# EAGLE library part PIC18F67K40 (library MCE_Microcontroladores-SoCs)
PIC18(L)F67K40 64-Pin, Low-Power, High-Performance Microcontrollers with XLP Technology
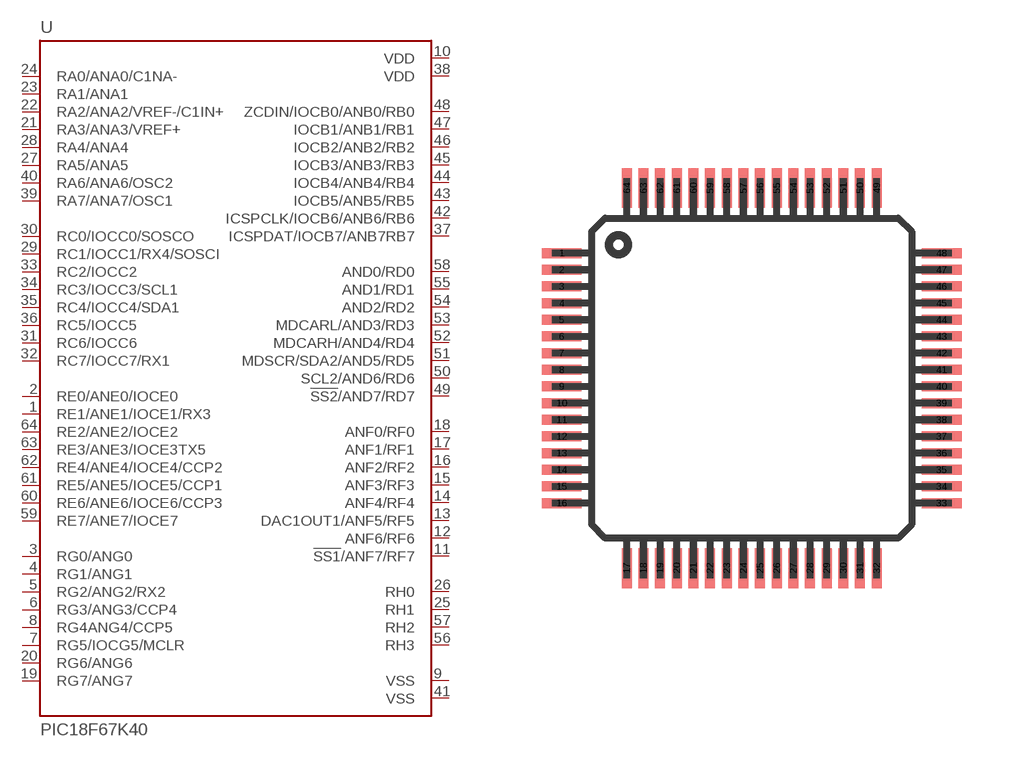
[diagram p8: symbol with the pads of TQFP64-10X10; footprint TQFP64-10X10]

Designator prefix U

## PIC18F67K40-I/PT  [TQFP64-10X10]
1  RE1/ANE1/IOCE1/RX3
2  RE0/ANE0/IOCE0
3  RG0/ANG0
4  RG1/ANG1
5  RG2/ANG2/RX2
6  RG3/ANG3/CCP4
7  RG5/IOCG5/MCLR
8  RG4ANG4/CCP5
9  VSS
10  VDD
11  !SS1!/ANF7/RF7
12  ANF6/RF6
13  DAC1OUT1/ANF5/RF5
14  ANF4/RF4
15  ANF3/RF3
16  ANF2/RF2
17  ANF1/RF1
18  ANF0/RF0
19  RG7/ANG7
20  RG6/ANG6
21  RA3/ANA3/VREF+
22  RA2/ANA2/VREF-/C1IN+
23  RA1/ANA1
24  RA0/ANA0/C1NA-
25  RH1
26  RH0
27  RA5/ANA5
28  RA4/ANA4
29  RC1/IOCC1/RX4/SOSCI
30  RC0/IOCC0/SOSCO
31  RC6/IOCC6
32  RC7/IOCC7/RX1
33  RC2/IOCC2
34  RC3/IOCC3/SCL1
35  RC4/IOCC4/SDA1
36  RC5/IOCC5
37  ICSPDAT/IOCB7/ANB7RB7
38  VDD
39  RA7/ANA7/OSC1
40  RA6/ANA6/OSC2
41  VSS
42  ICSPCLK/IOCB6/ANB6/RB6
43  IOCB5/ANB5/RB5
44  IOCB4/ANB4/RB4
45  IOCB3/ANB3/RB3
46  IOCB2/ANB2/RB2
47  IOCB1/ANB1/RB1
48  ZCDIN/IOCB0/ANB0/RB0
49  !SS2!/AND7/RD7
50  SCL2/AND6/RD6
51  MDSCR/SDA2/AND5/RD5
52  MDCARH/AND4/RD4
53  MDCARL/AND3/RD3
54  AND2/RD2
55  AND1/RD1
56  RH3
57  RH2
58  AND0/RD0
59  RE7/ANE7/IOCE7
60  RE6/ANE6/IOCE6/CCP3
61  RE5/ANE5/IOCE5/CCP1
62  RE4/ANE4/IOCE4/CCP2
63  RE3/ANE3/IOCE3TX5
64  RE2/ANE2/IOCE2

## Footprint TQFP64-10X10 (pad centres in mm)
Thin Quad Flat Pack package type TQ
smd 1.2 x 0.3: 1 -5.7,3.75; 2 -5.7,3.25; 3 -5.7,2.75; 4 -5.7,2.25; 5 -5.7,1.75; 6 -5.7,1.25; 7 -5.7,0.75; 8 -5.7,0.25; 9 -5.7,-0.25; 10 -5.7,-0.75; 11 -5.7,-1.25; 12 -5.7,-1.75; 13 -5.7,-2.25; 14 -5.7,-2.75; 15 -5.7,-3.25; 16 -5.7,-3.75; 33 5.7,-3.75; 34 5.7,-3.25; 35 5.7,-2.75; 36 5.7,-2.25; 37 5.7,-1.75; 38 5.7,-1.25; 39 5.7,-0.75; 40 5.7,-0.25; 41 5.7,0.25; 42 5.7,0.75; 43 5.7,1.25; 44 5.7,1.75; 45 5.7,2.25; 46 5.7,2.75; 47 5.7,3.25; 48 5.7,3.75
smd 0.3 x 1.2: 17 -3.75,-5.7; 18 -3.25,-5.7; 19 -2.75,-5.7; 20 -2.25,-5.7; 21 -1.75,-5.7; 22 -1.25,-5.7; 23 -0.75,-5.7; 24 -0.25,-5.7; 25 0.25,-5.7; 26 0.75,-5.7; 27 1.25,-5.7; 28 1.75,-5.7; 29 2.25,-5.7; 30 2.75,-5.7; 31 3.25,-5.7; 32 3.75,-5.7; 49 3.75,5.7; 50 3.25,5.7; 51 2.75,5.7; 52 2.25,5.7; 53 1.75,5.7; 54 1.25,5.7; 55 0.75,5.7; 56 0.25,5.7; 57 -0.25,5.7; 58 -0.75,5.7; 59 -1.25,5.7; 60 -1.75,5.7; 61 -2.25,5.7; 62 -2.75,5.7; 63 -3.25,5.7; 64 -3.75,5.7